# Altium schematic symbol library Schlib1.SchLib: 5 symbols
Pins are listed as number, name and electrical type; pins without a type are passive.

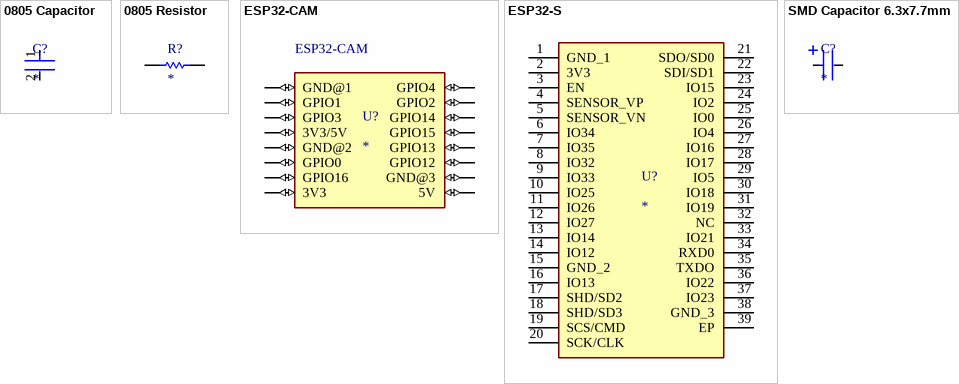
[diagram p0: symbols 0805 Capacitor to SMD Capacitor 6.3x7.7mm]

## 0805 Capacitor
designator C?
footprint FP-CC0805-0_85-IPC_A
pins: 1, 2

## 0805 Resistor
designator R?
pins: 1, 2

## ESP32-CAM
designator U?
footprint ESP32-CAM
pins: P$1 GND@1 (io), P$2 GPIO1 (io), P$3 GPIO3 (io), P$4 3V3/5V (io), P$5 GND@2 (io), P$6 GPIO0 (io), P$7 GPIO16 (io), P$8 3V3 (io), P$9 5V (io), P$10 GND@3 (io), P$11 GPIO12 (io), P$12 GPIO13 (io), P$13 GPIO15 (io), P$14 GPIO14 (io), P$15 GPIO2 (io), P$16 GPIO4 (io)

## ESP32-S
designator U?
footprint ESP32-S
pins: 1 GND_1, 2 3V3, 3 EN, 4 SENSOR_VP, 5 SENSOR_VN, 6 IO34, 7 IO35, 8 IO32, 9 IO33, 10 IO25, 11 IO26, 12 IO27, 13 IO14, 14 IO12, 15 GND_2, 16 IO13, 17 SHD/SD2, 18 SHD/SD3, 19 SCS/CMD, 20 SCK/CLK, 21 SDO/SD0, 22 SDI/SD1, 23 IO15, 24 IO2, 25 IO0, 26 IO4, 27 IO16, 28 IO17, 29 IO5, 30 IO18, 31 IO19, 32 NC, 33 IO21, 34 RXD0, 35 TXDO, 36 IO22, 37 IO23, 38 GND_3, 39 EP

## SMD Capacitor 6.3x7.7mm
designator C?
footprint SMD Capacitor 6.3x7.7mm
pins: 1, 2